# EAGLE library part MAX1837 (library 000001)
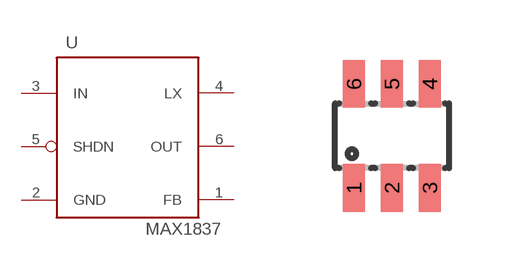
[diagram p44: symbol with the pads of SOT23-6L; footprint SOT23-6L]

Designator prefix -

## MAX1837  [SOT23-6L]
1  FB  pwr
2  GND  pwr
3  IN  pwr
4  LX  pwr
5  SHDN  in
6  OUT  pwr

## Footprint SOT23-6L (pad centres in mm)
Small Outline Transistor
smd 0.55 x 1.2: 1 -0.95,-1.3; 2 0,-1.3; 3 0.95,-1.3; 4 0.95,1.3; 5 0,1.3; 6 -0.95,1.3